# EAGLE library part TMP112 (library TMP112_1)
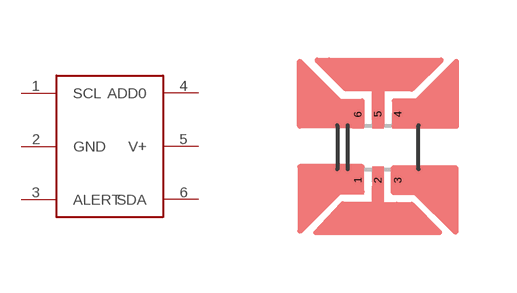
[diagram p0: symbol with the pads of TMP112; footprint TMP112]

Designator prefix -

## TMP112  [TMP112]
1  SCL
2  GND
3  ALERT
4  ADD0
5  V+
6  SDA

## Footprint TMP112 (pad centres in mm)
SOT-563 Source: www.centralsemi.com ..SOT-563PD.pdf
smd 0.285 x 0.7: 1 -0.5,-0.825; 2 0,-0.825; 3 0.5,-0.825; 4 0.5,0.825; 5 0,0.825; 6 -0.5,0.825